# Altium schematic symbol library Cap_Kemet_T491D107K016AT_eec.SchLib: 1 symbol
Pins are listed as number, name and electrical type; pins without a type are passive.

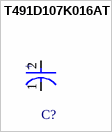
[diagram p0: symbol T491D107K016AT]

## T491D107K016AT
designator C?  (value not drawn)
pins: 1 C, 2 A
text: +